# EAGLE library part MOMO-EDGE-SMALL-F (library components)
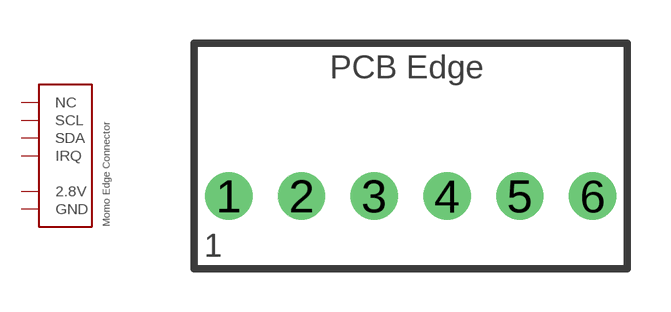
[diagram p19: symbol with the pads of MOMO-EDGE-SMALL-6F; footprint MOMO-EDGE-SMALL-6F]

Designator prefix -

## MOMO-EDGE-SMALL-F  [MOMO-EDGE-SMALL-6F]
1  2.8V  pwr
2  NC  pwr
3  SCL
4  SDA
5  IRQ
6  GND  pwr

## Footprint MOMO-EDGE-SMALL-6F (pad centres in mm)
Female .1" 6-pin header for MoMo main module edge connector
drill 1.1: 1 -6.35,0; 2 -3.81,0; 3 -1.27,0; 4 1.27,0; 5 3.81,0; 6 6.35,0